# Altium schematic symbol library BQ24079T-QFN16.SchLib: 1 symbol
Pins are listed as number, name and electrical type; pins without a type are passive.

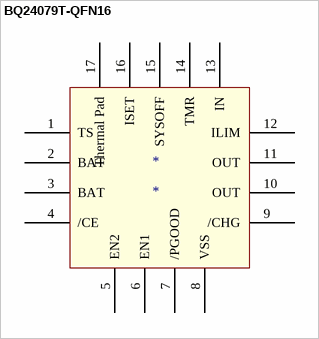
[diagram p0: symbol BQ24079T-QFN16]

## BQ24079T-QFN16
designator *
pins: 1 TS, 2 BAT, 3 BAT, 4 /CE, 5 EN2, 6 EN1, 7 /PGOOD, 8 VSS, 9 /CHG, 10 OUT, 11 OUT, 12 ILIM, 13 IN, 14 TMR, 15 SYSOFF, 16 ISET, 17 Thermal Pad